# Altium footprint library STM32F103C8T6核心板.PcbLib: 23 footprints (part 1 of 2)
Each footprint in its own frame and in the unit in brackets; x right, y up, seen from the top. Pads: shape width x height; smd on the part's side, far side on the other; paste and mask are expansions set on the pad; w line width, h text height; cw(c..) or ccw(c..) is an arc to the next point about the centre after c.
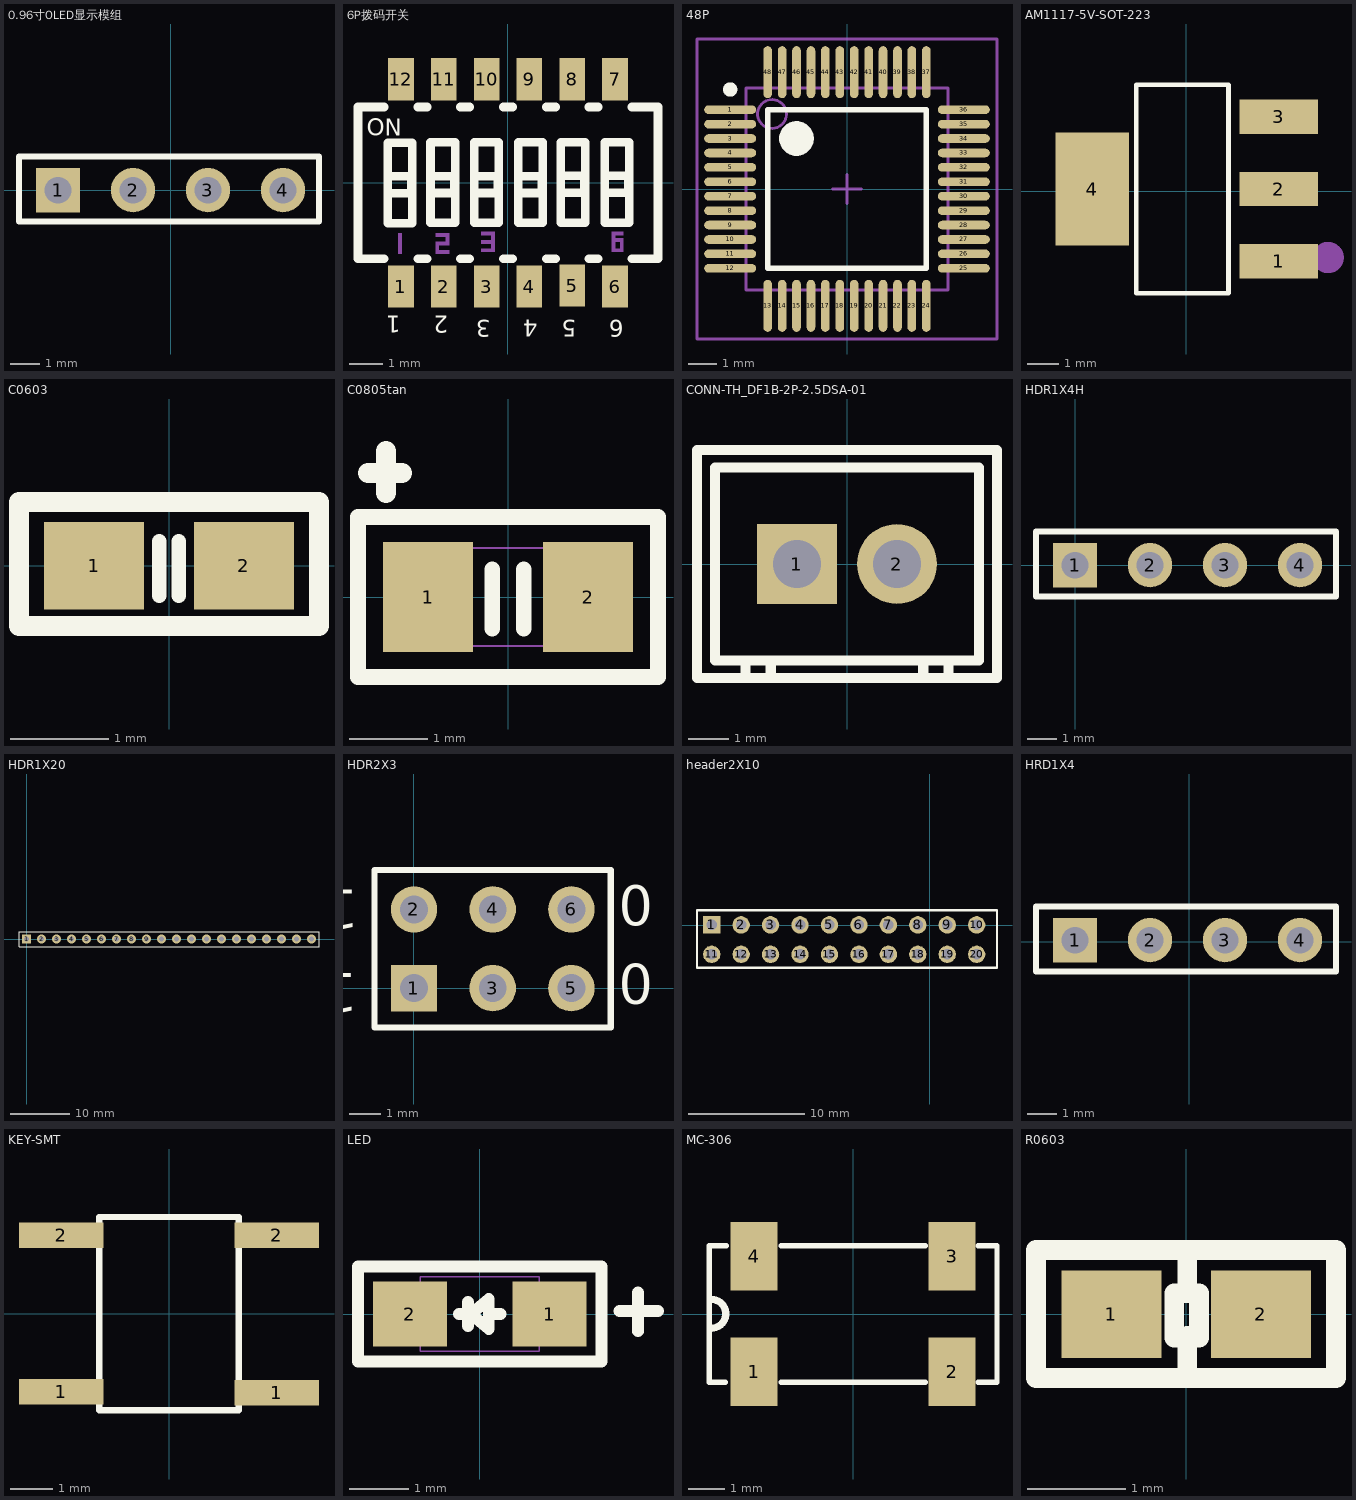
[diagram p0: the footprints below, top view; thin cyan lines are the x and y axes]

## 0.96寸OLED显示模组 [mm]
pads (4):
  rect 1.5x1.5 hole 0.9: 1(-3.81,0)
  round 1.5 hole 0.9: 2(-1.27,0) 3(1.27,0) 4(3.81,0)
Top Overlay:
  lines w0.2: -5.131,-1.067 5.029,-1.067 5.029,1.143 1.549,1.143 -3.531,1.143 -5.131,1.143 -5.131,-1.067
3D body "User Library-OLED-12864-0_96cun.STEP": height 2.6, standoff -9.1, extent -13.599,-26.631 13.701,1.169

## 6P拨码开关 [mm]
pads (12):
  rect 0.76x1.25 smd: 1(-3.175,-3.075) 2(-1.905,-3.075) 3(-0.635,-3.075) 4(0.635,-3.075) 5(1.905,-3.048) 6(3.175,-3.075) 7(3.175,3.075) 8(1.905,3.075) 9(0.635,3.075) 10(-0.635,3.075) 11(-1.905,3.075) 12(-3.175,3.075)
Top Overlay:
  lines w0.254: -3.668,-2.25 -4.45,-2.25 -4.45,2.25 -3.668,2.25 ; -2.682,-2.25 -2.398,-2.25 ; -2.682,2.25 -2.398,2.25 ; -1.412,-2.25 -1.128,-2.25 ; -1.412,2.25 -1.128,2.25 ; -0.142,-2.25 0.142,-2.25 ; -0.142,2.25 0.142,2.25 ; 1.128,-2.25 1.412,-2.25 ; 1.128,2.25 1.412,2.25 ; 2.398,-2.25 2.682,-2.25 ; 2.398,2.25 2.682,2.25 ; 3.668,-2.25 4.45,-2.25 4.45,2.25 ; 3.668,2.25 4.409,2.25 ; -3.565,-1.193 -2.835,-1.193 -2.835,1.192 -3.565,1.192 -3.565,-1.193 ; -3.565,-0.308 -2.865,-0.308 -2.865,0.192 -3.565,0.192 -3.565,-0.308 ; -2.3,-1.185 -1.57,-1.185 -1.57,1.2 -2.3,1.2 -2.3,-1.185 ; -2.3,-0.3 -1.6,-0.3 -1.6,0.2 -2.3,0.2 -2.3,-0.3 ; -1,-1.185 -0.27,-1.185 -0.27,1.2 -1,1.2 -1,-1.185 ; -1,-0.3 -0.3,-0.3 -0.3,0.2 -1,0.2 -1,-0.3 ; 0.3,-1.185 1.03,-1.185 1.03,1.2 0.3,1.2 0.3,-1.185 ; 0.3,-0.3 1,-0.3 1,0.2 0.3,0.2 0.3,-0.3 ; 1.565,-1.177 2.295,-1.177 2.295,1.208 1.565,1.208 1.565,-1.177 ; 1.565,-0.292 2.265,-0.292 2.265,0.208 1.565,0.208 1.565,-0.292 ; 2.865,-1.177 3.595,-1.177 3.595,1.208 2.865,1.208 2.865,-1.177 ; 2.865,-0.292 3.565,-0.292 3.565,0.208 2.865,0.208 2.865,-0.292
  text "1" at -3.175,-3.937 h0.5
  text "2" at -1.778,-3.937 h0.5
  text "3" at -0.508,-4.064 h0.5
  text "4" at 0.889,-4.064 h0.5
  text "5" at 2.032,-4.064 h0.5
  text "6" at 3.429,-4.064 h0.5
  text "ON" at -4.191,1.397 h0.5
Mechanical 15:
  region: -2.15,-1.5 -1.75,-1.5 -1.75,-1.85 -2.05,-1.85 -2.05,-1.9 -2.05,-2 -1.75,-2 -1.75,-2.1 -2.15,-2.1 -2.15,-1.75 -1.85,-1.75 -1.85,-1.6 -2.15,-1.6
  region: -3.25,-1.5 -3.25,-2.1 -3.15,-2.1 -3.15,-1.5
  region: -0.8,-1.45 -0.4,-1.45 -0.4,-2.05 -0.8,-2.05 -0.8,-1.95 -0.5,-1.95 -0.5,-1.85 -0.5,-1.8 -0.8,-1.8 -0.8,-1.7 -0.5,-1.7 -0.5,-1.65 -0.5,-1.55 -0.8,-1.55
  region: 3.375,-1.45 3.075,-1.45 3.075,-2.05 3.425,-2.05 3.425,-1.65 3.225,-1.65 3.18,-1.65 3.18,-1.75 3.325,-1.75 3.325,-1.95 3.175,-1.95 3.175,-1.55 3.425,-1.55 3.425,-1.45

## 48P [mm]
height 4.32
pads (48):
  oval 1.8x0.3 smd: 1(-4.05,2.75) 2(-4.05,2.25) 3(-4.05,1.75) 4(-4.05,1.25) 5(-4.05,0.75) 6(-4.05,0.25) 7(-4.05,-0.25) 8(-4.05,-0.75) 9(-4.05,-1.25) 10(-4.05,-1.75) 11(-4.05,-2.25) 12(-4.05,-2.75) 25(4.05,-2.75) 26(4.05,-2.25) 27(4.05,-1.75) 28(4.05,-1.25) 29(4.05,-0.75) 30(4.05,-0.25) 31(4.05,0.25) 32(4.05,0.75) 33(4.05,1.25) 34(4.05,1.75) 35(4.05,2.25) 36(4.05,2.75)
  oval 0.3x1.8 smd: 13(-2.75,-4.05) 14(-2.25,-4.05) 15(-1.75,-4.05) 16(-1.25,-4.05) 17(-0.75,-4.05) 18(-0.25,-4.05) 19(0.25,-4.05) 20(0.75,-4.05) 21(1.25,-4.05) 22(1.75,-4.05) 23(2.25,-4.05) 24(2.75,-4.05) 37(2.75,4.05) 38(2.25,4.05) 39(1.75,4.05) 40(1.25,4.05) 41(0.75,4.05) 42(0.25,4.05) 43(-0.25,4.05) 44(-0.75,4.05) 45(-1.25,4.05) 46(-1.75,4.05) 47(-2.25,4.05) 48(-2.75,4.05)
Top Overlay:
  circle w0.6: c-1.75,1.75 r0.3
  circle w0.25: c-4.05,3.45 r0.125
  lines w0.2: -2.75,-2.75 2.75,-2.75 2.75,2.75 -2.75,2.75 -2.75,-2.75
Mechanical 13:
  circle w0.1: c-2.6,2.6 r0.5
  lines w0.1: -3.5,-3.5 3.5,-3.5 3.5,3.5 -3.5,3.5 -3.5,-3.5
Mechanical 15:
  lines w0.1: -0.5,0 0.5,0 ; 0,-0.5 0,0.5 ; -5.2,-5.2 5.2,-5.2 5.2,5.2 -5.2,5.2 -5.2,-5.2
3D body: height 1.6, standoff 0, extent -3.5,-3.5 3.5,3.5

## AM1117-5V-SOT-223 [mm]
pads (4):
  rect 2.5x1.1 smd: 1(2.945,-2.224) 2(2.945,0.076) 3(2.945,2.376)
  rect 2.34x3.6 smd: 4(-2.995,0.076)
Top Overlay:
  lines w0.152: -1.597,-3.25 1.346,-3.25 1.346,3.402 -1.597,3.402 -1.597,-3.25
Mechanical 15:
  circle w0.5: c4.526,-2.112 r0.25
3D body "SW3DPS-SOT-223-DEFAULT.STEP": height 1.65, standoff -0.03, extent -3.355,-3.149 3.605,3.351

## C0603 [mil]
height 170.08
pads (2):
  rect 40x35 smd: 1(-29.92,0) 2(29.92,0)
Top Overlay:
  lines w5.91: -3.94,-11.81 -3.94,9.84 ; 3.94,-11.81 3.94,9.84
  lines w7.87: -60,-24 -60,25.59 60,25.59 60,-24 -60,-24
3D body "Capacitor 0603 SMD.step": height 35.04, standoff -0.39, extent -50.66,-18.4 51.7,20.97
3D body: height 10, standoff 0, extent 0,0 0,0

## C0805tan [mil]
height 104.33
pads (2):
  rect 45x55 smd: 1(-40,0) 2(40,0)
Top Overlay:
  lines w7.87: -7.87,-15.75 -7.87,13.78 ; 7.87,-15.75 7.87,13.78 ; -75,-40 -75,40 75,40 75,-40 -75,-40
  lines w10: -70,62 -53,62 ; -61,52 -61,73
Mechanical 8:
  lines w1: -39.37,-24.61 -39.37,24.61 39.37,24.61 39.37,-24.61 -39.37,-24.61
3D body "User Library-0805 SMD Capacitor.STEP": height 30.39, standoff -0.39, extent -40.85,-25.61 37.89,23.61

## CONN-TH_DF1B-2P-2.5DSA-01 [mm]
pads (2):
  rect 2x2 hole 1.2: 1(-1.25,0)
  round 2 hole 1.2: 2(1.25,0)
Top Overlay:
  lines w0.254: -2.54,-2.85 -2.54,-2.413 ; -1.905,-2.85 -1.905,-2.413 ; 1.905,-2.85 1.905,-2.413 ; 2.54,-2.85 2.54,-2.413 ; -3.75,-2.85 -3.75,2.85 3.75,2.85 3.75,-2.85 -3.75,-2.85 ; -3.302,-2.413 3.302,-2.413 3.302,2.413 -3.302,2.413 -3.302,-2.413
3D body "JS-1132-2.STEP": height 2, standoff -6.5, extent -2.85,-1.905 2.85,1.895

## HDR1X4H [mm] "Connector; Header; 4 Position; Right Angle"
pads (4):
  rect 1.5x1.5 hole 0.9: 1(0,0)
  round 1.5 hole 0.9: 2(2.54,0) 3(5.08,0) 4(7.62,0)
Top Overlay:
  lines w0.2: -1.321,-1.067 -1.321,1.143 0.279,1.143 5.359,1.143 8.839,1.143 8.839,-1.067 -1.321,-1.067

## HDR1X20 [mm] "Connector; Header; 20 Position"
height 4.32
pads (20):
  rect 1.5x1.5 hole 0.9: 1(0,0)
  round 1.5 hole 0.9: 2(2.54,0) 3(5.08,0) 4(7.62,0) 5(10.16,0) 6(12.7,0) 7(15.24,0) 8(17.78,0) 9(20.32,0) 10(22.86,0) 11(25.4,0) 12(27.94,0) 13(30.48,0) 14(33.02,0) 15(35.56,0) 16(38.1,0) 17(40.64,0) 18(43.18,0) 19(45.72,0) 20(48.26,0)
Top Overlay:
  lines w0.2: -1.27,-1.27 -1.27,1.27 0.635,1.27 49.53,1.27 49.53,-1.27 -1.27,-1.27

## HDR2X3 [mm] "Connector; Header; 3x2 Position"
height 4.32
pads (6):
  rect 1.5x1.5 hole 0.9: 1(0,0)
  round 1.5 hole 0.9: 2(0,2.54) 3(2.54,0) 4(2.54,2.54) 5(5.08,0) 6(5.08,2.54)
Top Overlay:
  lines w0.2: 1.482,-1.27 6.35,-1.27 ; 6.35,-1.27 -1.27,-1.27 -1.27,3.81 6.35,3.81 6.35,-1.27
  text "1" at -1.807,0.486 h1.27
  text "1" at -1.778,3.175 h1.27
  text "0" at 6.604,-0.508 h1.27
  text "0" at 6.604,2.032 h1.27

## header2X10 [mm]
pads (20):
  rect 1.5x1.5 hole 0.9: 1(-18.821,0.051)
  round 1.5 hole 0.9: 2(-16.281,0.051) 3(-13.741,0.051) 4(-11.201,0.051) 5(-8.661,0.051) 6(-6.121,0.051) 7(-3.581,0.051) 8(-1.041,0.051) 9(1.499,0.051) 10(4.039,0.051) 11(-18.821,-2.489) 12(-16.281,-2.489) 13(-13.741,-2.489) 14(-11.201,-2.489) 15(-8.661,-2.489) 16(-6.121,-2.489) 17(-3.581,-2.489) 18(-1.041,-2.489) 19(1.499,-2.489) 20(4.039,-2.489)
Top Overlay:
  lines w0.2: -20.091,-3.658 5.791,-3.658 5.791,1.321 -18.186,1.321 -20.091,1.321 -20.091,-3.658

## HRD1X4 [mm]
pads (4):
  rect 1.5x1.5 hole 0.9: 1(-3.861,0.051)
  round 1.5 hole 0.9: 2(-1.321,0.051) 3(1.219,0.051) 4(3.759,0.051)
Top Overlay:
  lines w0.2: -5.182,-1.016 4.978,-1.016 4.978,1.194 1.499,1.194 -3.581,1.194 -5.182,1.194 -5.182,-1.016

## KEY-SMT [mm]
height 4.32
pads (4):
  rect 2x0.6 smd: 1(-2.55,-1.85) 1(2.55,-1.87) 2(-2.55,1.85) 2(2.55,1.85)
Top Overlay:
  lines w0.152: -1.651,-2.286 1.651,-2.286 1.651,2.286 -1.651,2.286 -1.651,-2.286

## LED [mil]
height 170.08
pads (2):
  rect 49x43 smd: 1(46.26,0) 2(-46.26,0)
Top Overlay:
  lines w7.87: -13.78,0 -5.91,0 ; -7.87,-7.87 -7.87,7.87 ; 5.91,0 13.78,0 ; 92.52,1.97 118.11,1.97 ; 104.75,-11.44 104.75,14.15 ; -5.91,0 5.91,-9.84 5.91,9.84 -5.91,0 ; -80.71,-31.5 -80.71,31.5 80.71,31.5 80.71,-31.5 -80.71,-31.5
Mechanical 8:
  lines w1: -39.37,-24.61 -39.37,24.61 39.37,24.61 39.37,-24.61 -39.37,-24.61

## MC-306 [mm]
height 1.6
pads (4):
  rect 1.3x1.9 smd: 1(-2.75,-1.6) 2(2.75,-1.6) 3(2.75,1.6) 4(-2.75,1.6)
Top Overlay:
  lines w0.152: -3.556,-1.9 -4,-1.9 -4,1.9 -3.531,1.9 ; -2,-1.9 2,-1.9 ; -2,1.9 2,1.9 ; 3.48,-1.9 4,-1.9 4,1.9 3.48,1.9
  lines w0.2: -3.937,-0.394 ccw(c-3.937,0.006) -3.937,0.406

## R0603 [mil]
height 170.08
pads (2):
  rect 40x35 smd: 1(-29.92,0) 2(29.92,0)
Top Overlay:
  lines w7.87: 0.39,-21.65 0.39,-8.66 ; 0.39,9.45 0.39,21.65 ; -60.07,-25.59 -60.07,25.59 59.93,25.59 59.93,-25.59 -60.07,-25.59 ; -4.72,-9.45 5.12,-9.45 5.12,8.27 -4.72,8.27 -4.72,-9.45
3D body "R0603.STEP": height 17.72, standoff 0, extent -33.49,-15.74 29.5,15.75